# Altium footprint library LEEFI_Lib.PcbLib: 9 footprints
Each footprint in its own frame and in the unit in brackets; x right, y up, seen from the top. Pads: shape width x height; smd on the part's side, far side on the other; paste and mask are expansions set on the pad; w line width, h text height; cw(c..) or ccw(c..) is an arc to the next point about the centre after c.
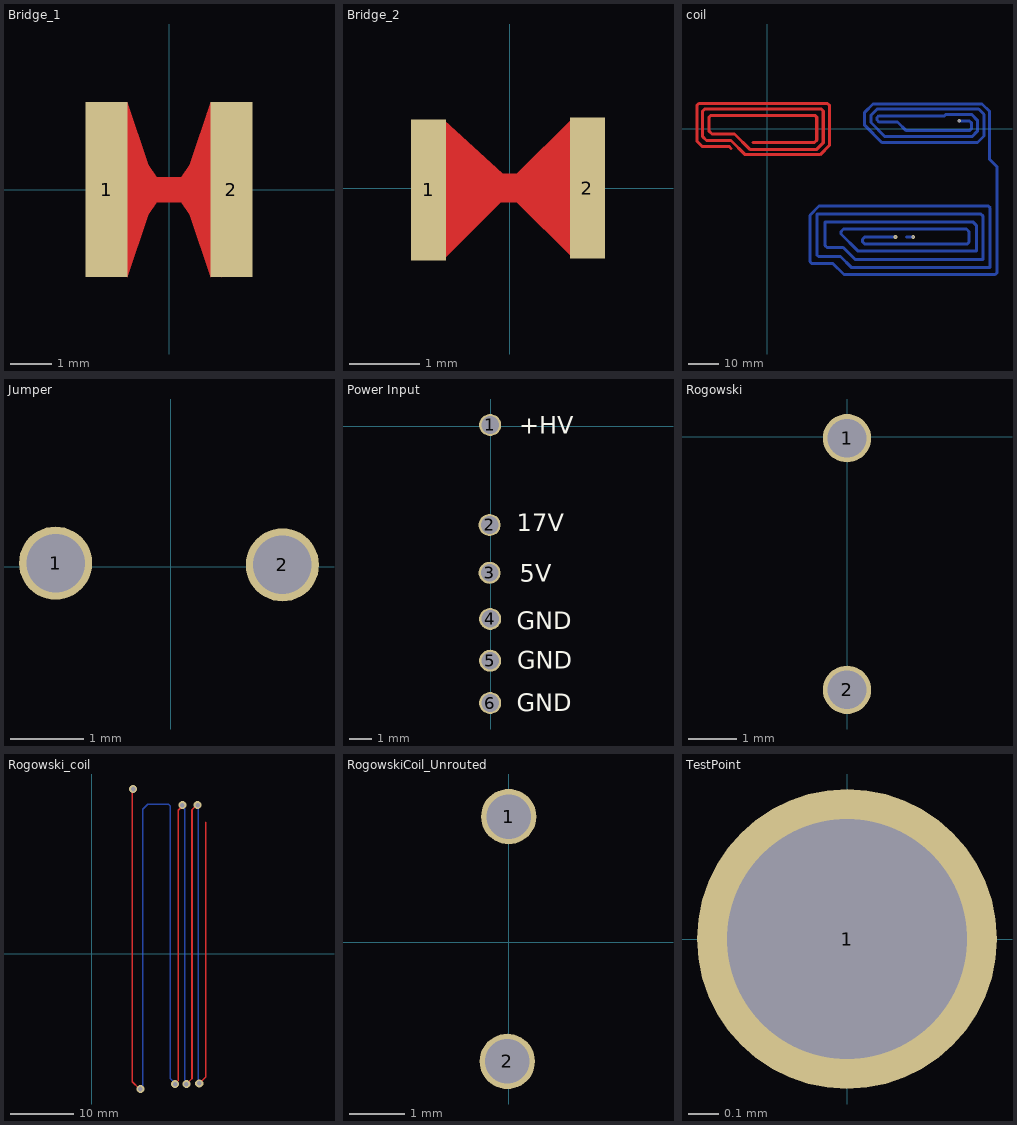
[diagram p0: the footprints below, top view; thin cyan lines are the x and y axes]

## Bridge_1 [mm]
pads (2):
  rect 1x4.2 smd: 1(-1.5,0) 2(1.5,0)
Top Layer:
  region: -0.5,-0.6 -0.3,-0.3 -0.3,0.3 -0.5,0.6
  region: 0.3,0.3 0.3,-0.3 0.5,-0.6 0.5,0.6
  region: -0.5,0.6 -1,1.1 -1,2.1
  region: -0.5,-0.6 -1,-1.1 -1,-2.1
  region: -1,1.1 -1,-1.1 -0.5,-0.6 -0.5,0.6
  region: 0.5,-0.6 1,-1.1 1,-2.1
  region: -0.3,0.3 0.3,0.3 0.3,-0.3 -0.3,-0.3
  region: 0.5,0.6 1,1.1 1,2.1
  region: 1,-1.1 1,1.1 0.5,0.6 0.5,-0.6
  region: 0.9,1.825 1.25,1.825 1.25,-2.1 0.925,-1.775 0.925,-1.625
  region: -0.925,-1.8 -1.15,-1.8 -1.1,-1.75 -1.1,1.85 -0.95,1.85 -0.9,1.8
Top Solder:
  region: 0.5,1.95 0.6,1.85 1.575,1.85 1.575,1.025 1.15,0.6 1.05,0.7 0.444,0.7
  region: -0.512,0.713 0.512,0.712 0.288,0.338 -0.288,0.337
  region: -0.95,0.7 -0.95,2.2 0.9,2.2 0.9,0.7
  region: -0.5,0.7 -0.5,0.65 -0.8,0.35 -0.95,0.5 -0.95,-0.725 -0.95,0.7
  region: -0.5,0.65 -0.5,-0.65 -0.95,-1.1 -0.95,0.5
  region: -0.5,-0.65 0.5,-0.65 0.275,-0.325 -0.275,-0.325
  region: -0.925,-2.175 0.925,-2.175 0.925,-1.075 0.475,-0.625 -1.225,-0.625
  region: 1.15,0.6 0.419,0.6 0.444,0.7 0.9,0.7
  region: 0.5,-0.65 0.975,-0.65 0.925,-0.7 0.925,-1.075 0.725,-1.075 0.65,-1.15
  region: 0.5,1.175 0.5,-1.05 0.9,-0.65 0.975,-0.65 0.975,0.6 1.025,0.65

## Bridge_2 [mm] "200umL_400umW_35umT"
pads (2):
  rect 0.5x2 smd: 1(-1.15,-0.025) 2(1.1,0)
Top Layer:
  region: 0.1,0.2 0.1,-0.2 -0.1,-0.2 -0.1,0.2
  region: -0.1,0.2 -0.1,-0.2 -0.125,-0.2 -0.925,-1 -0.925,0.962
  region: 0.1,-0.2 0.1,0.2 0.875,0.975 0.875,-0.975
Top Solder:
  rectangle: -0.325,0.225 0.3,0.4
  rectangle: -0.325,-0.4 0.3,-0.225
  rectangle: 0.125,-0.275 0.3,0.275
  rectangle: -0.325,-0.275 -0.15,0.25

## coil [mm]
via 63.664,2.656 diameter 1.27 hole 0.711
via 42.564,-35.949 diameter 1.27 hole 0.711
via 48.406,-35.949 diameter 1.27 hole 0.711
Top Layer:
  lines w1: -12.067,-6.575 -12.829,-5.813 -21.719,-5.813 -23.37,-4.162 -23.37,7.825 -22.784,8.411 19.986,8.411 20.572,7.825 20.572,-5.559 17.524,-8.607 -7.368,-8.607 -12.067,-3.908 -20.195,-3.908 -21.465,-2.638 -21.465,5.92 -20.879,6.506 17.954,6.506 18.54,5.92 18.54,-4.67 16.381,-6.829 -5.844,-6.829 -10.924,-1.749 -18.417,-1.749 -19.306,-0.86 -19.306,3.888 -18.72,4.474 15.746,4.474 16.381,3.839 16.381,-3.781 15.619,-4.543 -4.828,-4.543
Bottom Layer:
  lines w1: 42.564,-35.949 32.277,-35.949 31.548,-36.678 31.548,-37.506 32.277,-38.235 66.362,-38.235 66.948,-37.649 66.948,-34.171 66.059,-33.282 25.292,-33.282 24.436,-34.138 24.436,-34.966 29.991,-40.521 69.361,-40.521 69.361,-32.033 68.197,-30.869 19.196,-30.869 19.196,-38.792 19.782,-39.378 25.165,-39.378 29.229,-43.442 71.52,-43.442 71.52,-28.915 70.934,-28.329 16.402,-28.329 16.402,-41.84 16.988,-42.426 24.276,-42.426 27.832,-45.982 73.933,-45.982 73.933,-26.248 73.347,-25.662 17.164,-25.662 14.116,-28.71 14.116,-44.126 14.702,-44.712 21.736,-44.712 25.419,-48.395 75.633,-48.395 76.219,-47.809 76.219,-12.581 73.806,-10.168 73.806,5.707 71.266,8.247 35.071,8.247 32.277,5.453 32.277,1.135 37.992,-4.58 69.742,-4.58 71.901,-2.421 71.901,4.818 70.123,6.596 36.447,6.596 34.384,4.533 34.384,2.055 39.072,-2.634 67.9,-2.634 69.701,-0.833 69.701,2.846 67.729,4.818 59.328,4.818 58.82,4.31 36.976,4.31 36.374,3.708 36.374,2.88 36.976,2.278 43.199,2.278 46.12,-0.643 67.075,-0.643 67.71,-0.008 67.71,2.022 67.124,2.607 65.476,2.607 65.424,2.659 65.422,2.657 63.666,2.657 63.664,2.656 ; 46.247,-35.949 48.406,-35.949

## Jumper [mm]
pads (2):
  round 1 hole 0.8: 1(-1.575,0.05) 2(1.525,0.025)

## Power Input [mm]
pads (6):
  round 1 hole 0.8: 1(-0.025,0.05) 2(-0.05,-4.5) 3(-0.05,-6.675) 4(-0.025,-8.775) 5(-0.025,-10.675) 6(-0.025,-12.6)
Top Overlay:
  text "GND" at 1.175,-12.975 h0.8
  text "GND" at 1.2,-11.05 h0.8
  text "+HV" at 1.3,-0.35 h0.8
  text "17V" at 1.175,-4.775 h0.8
  text "5V" at 1.325,-7.075 h0.8
  text "GND" at 1.175,-9.25 h0.8

## Rogowski [mm]
pads (2):
  round 1 hole 0.8: 1(0,-0.025) 2(0,-5.225)

## Rogowski_coil [mm]
via 16.658,23.366 diameter 1.27 hole 0.711
via 6.498,25.906 diameter 1.27 hole 0.711
via 7.641,-21.338 diameter 1.27 hole 0.711
via 13.102,-20.576 diameter 1.27 hole 0.711
via 14.245,23.366 diameter 1.27 hole 0.711
via 14.88,-20.576 diameter 1.27 hole 0.711
via 16.912,-20.449 diameter 1.27 hole 0.711
Top Layer:
  lines w0.254: 6.498,25.906 6.371,25.779 6.371,-20.195 7.514,-21.338 7.641,-21.338 ; 13.61,-20.068 13.61,21.842 13.61,22.564 14.245,23.199 14.245,23.366 ; 14.88,-20.576 15.769,-19.687 15.769,22.096 15.769,22.617 16.404,23.252 16.404,23.419 ; 16.912,-20.449 17.928,-19.433 17.928,20.699
Mid-Layer 2:
  lines w0.254: 13.102,-20.576 13.61,-20.068
Bottom Layer:
  lines w0.254: 7.641,-21.338 8.022,-20.957 8.022,22.731 8.784,23.493 12.086,23.493 12.34,23.239 12.34,-19.687 13.102,-20.449 13.102,-20.576 ; 14.245,23.366 14.245,23.091 14.626,22.71 14.626,-19.919 14.686,-19.979 14.686,-20.382 14.88,-20.576 ; 16.404,23.419 16.636,23.419 16.785,23.27 16.785,-20.322 16.912,-20.449

## RogowskiCoil_Unrouted [mm]
pads (2):
  round 1 hole 0.8: 1(0,2.275) 2(-0.025,-2.15)

## TestPoint [mm]
pads (1):
  round 1 hole 0.8: 1(0,0)